# Altium footprint library nitrous.PcbLib: 9 footprints
Each footprint in its own frame and in the unit in brackets; x right, y up, seen from the top. Pads: shape width x height; smd on the part's side, far side on the other; paste and mask are expansions set on the pad; w line width, h text height; cw(c..) or ccw(c..) is an arc to the next point about the centre after c.
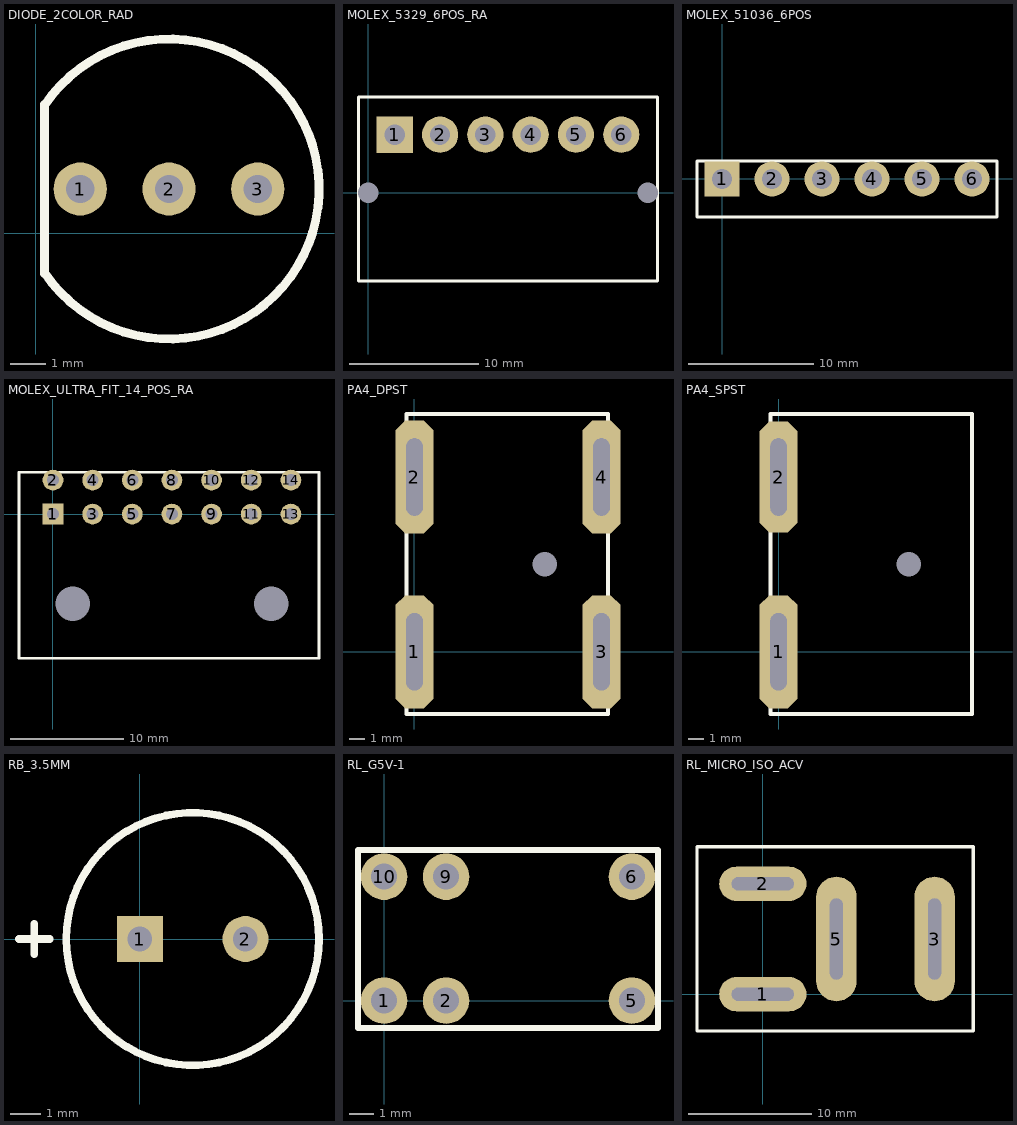
[diagram p0: the footprints below, top view; thin cyan lines are the x and y axes]

## DIODE_2COLOR_RAD [mil]
pads (3):
  round 60 hole 32: 1(50,50) 2(150,50) 3(250,50)
Top Overlay:
  lines w10: 10,-45 10,145 ; 10.22,-44.85 ccw(c150,50) 10.22,144.85

## MOLEX_5329_6POS_RA [mm]
height 8.255
pads (8):
  rect 2.8x2.8 hole 1.575: 1(2.05,4.5)
  round 2.8 hole 1.575: 2(5.55,4.5) 3(9.05,4.5) 4(12.55,4.5) 5(16.05,4.5) 6(19.55,4.5)
  round 0 hole 1.575: ""(0,0) ""(21.6,0)
Top Overlay:
  lines w0.254: -0.75,-6.8 22.35,-6.8 22.35,7.4 -0.75,7.4 -0.75,-6.8

## MOLEX_51036_6POS [mm]
height 8.001
pads (6):
  rect 2.8x2.8 hole 1.575: 1(0,0)
  round 2.8 hole 1.575: 2(4,0) 3(8,0) 4(12,0) 5(16,0) 6(20,0)
Top Overlay:
  lines w0.254: -2,-3.05 22,-3.05 22,1.45 -2,1.45 -2,-3.05

## MOLEX_ULTRA_FIT_14_POS_RA [mil]
pads (16):
  rect 72x72 hole 42: 1(0,0)
  round 72 hole 42: 2(0,118.11) 3(137.8,0) 4(137.8,118.11) 5(275.59,0) 6(275.59,118.11) 7(413.39,0) 8(413.39,118.11) 9(551.18,0) 10(551.18,118.11) 11(688.98,0) 12(688.98,118.11) 13(826.77,0) 14(826.77,118.11)
  round 0 hole 120.08: ""(68.9,-311.42) ""(757.87,-311.42)
Top Overlay:
  lines w10: -118.11,-500.98 -118.11,145.47 924.41,145.47 924.41,-500.98 -118.11,-500.98

## PA4_DPST [mil] "DPST push switch"
pads (5):
  oct 95x285 hole 42 slot 195 at 90 deg: 1(0,0) 2(0,441) 3(472,0) 4(472,441)
  round 0 hole 62: ""(328.5,220.5)
Top Overlay:
  lines w10: -20,-157 488,-157 488,600 -20,600 -20,-157

## PA4_SPST [mil] "SPST push switch"
pads (3):
  oct 95x285 hole 42 slot 195 at 90 deg: 1(0,0)
  oct 95x280 hole 42 slot 195 at 90 deg: 2(0,441)
  round 0 hole 62: ""(328.5,220.5)
Top Overlay:
  lines w10: -20,-157 488,-157 488,600 -20,600 -20,-157

## RB_3.5MM [mil]
pads (2):
  rect 60x60 hole 32: 1(0,0)
  round 60 hole 32: 2(138,0)
Top Overlay:
  circle w10: c69,0 r165
  lines w10: -157.8,0 -117.8,0 ; -137.8,-20 -137.8,20

## RL_G5V-1 [mil]
pads (6):
  round 75 hole 42: 1(0,0) 2(100,0) 5(400,0) 6(400,200) 9(100,200) 10(0,200)
Top Overlay:
  lines w10: -42,-44 -42,243 442,243 442,-44 -42,-44

## RL_MICRO_ISO_ACV [mil] "Micro-ISO Relay ACV series"
pads (4):
  oval 280x110 hole 42 slot 200 at 0 deg: 1(0,0) 2(0,354)
  oval 130x400 hole 42 slot 260 at 90 deg: 3(551,177) 5(236,177)
Top Overlay:
  lines w10: -211,-118 -211,473 675,473 675,-118 -211,-118